# EAGLE library part TDA7449 (library mru-lib)
TDA7449 Audioprocessor Digital 20DIP
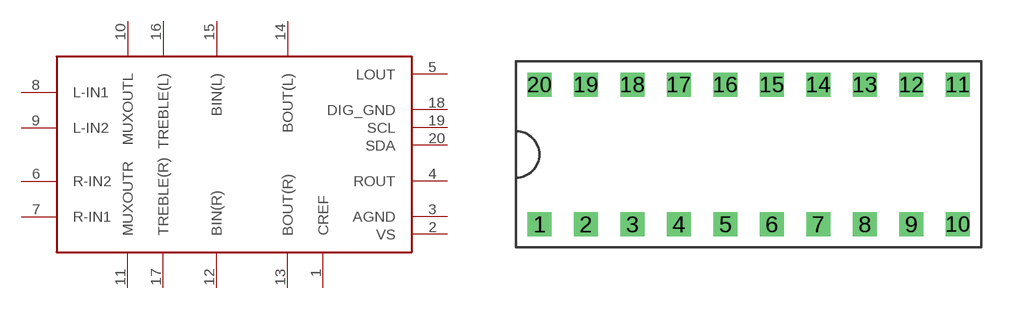
[diagram p1: symbol with the pads of 20DIP; footprint 20DIP]

Designator prefix -

## TDA7449  [20DIP]
1  CREF
2  VS  pwr
3  AGND  pwr
4  ROUT  out
5  LOUT  out
6  R-IN2  in
7  R-IN1  in
8  L-IN1  in
9  L-IN2  in
10  MUXOUTL  out
11  MUXOUTR
12  BIN(R)
13  BOUT(R)
14  BOUT(L)  out
15  BIN(L)  in
16  TREBLE(L)  out
17  TREBLE(R)
18  DIG_GND  sup
19  SCL  in
20  SDA

## Footprint 20DIP (pad centres in mm)
drill 0.8 square: 1 0,0; 2 2.54,0; 3 5.08,0; 4 7.62,0; 5 10.16,0; 6 12.7,0; 7 15.24,0; 8 17.78,0; 9 20.32,0; 10 22.86,0; 11 22.86,7.62; 12 20.32,7.62; 13 17.78,7.62; 14 15.24,7.62; 15 12.7,7.62; 16 10.16,7.62; 17 7.62,7.62; 18 5.08,7.62; 19 2.54,7.62; 20 0,7.62